# Altium schematic symbol library CL-SB-12B-01T.SchLib: 1 symbol
Pins are listed as number, name and electrical type; pins without a type are passive.

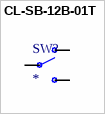
[diagram p0: symbol CL-SB-12B-01T]

## CL-SB-12B-01T
designator SW?
Slide Switch SPDT Surface Mount; MF: Nidec Copal; MP: CL-SB-12B-01T; SnapEDA_Link: https://www.snapeda.com/parts/CL-SB-12B-01T/Nidec/view-part/?ref=snap; Package: None; Value: *; Check_prices: https://www.snapeda.com/parts/CL-SB-12B-01T/Nidec/view-part/?ref=eda
footprint CL-SB-12B-01T
pins: 1, 3, C